# Altium integrated library FCB-0805-601A.IntLib: 1 symbol
Pins are listed as number, name and electrical type; pins without a type are passive.

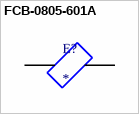
[diagram p0: symbol FCB-0805-601A]

## FCB-0805-601A
designator E?
Ferrite Bead | 600 Ohm | 0805 1LN; MF: Signal Transformer; MP: FCB-0805-601A; Package: None; Price: None; Value: *; SnapEDA_Link: https://www.snapeda.com/parts/FCB-0805-601A/Signal+Transformer/view-part/?ref=snap; Availability: Not in stock; Check_prices: https://www.snapeda.com/parts/FCB-0805-601A/Signal+Transformer/view-part/?ref=eda
footprint FB_FCB-0805-601A
pins: 1, 2